# EAGLE library part A141-1455M1 (library saw-filters-narrowband)
A141-1455M1 Параметр Ед. изм. Мин. значение Тип. значение Макс. значение Центральная частота МГц 1453 1455 1457 Минимальное вносимое затухание дБ 2.8 3 3.5 Полоса среза по уровню -2 дБ МГц 26 27 29 Полоса среза по уровню -30 дБ МГц 72 74 76 Неравномерность АЧХ дБ - 1 1.2 Групповое время задержки нс - - - Гарантированное затухание дБ - 40 - Температурный диапазон °C -55 22 +85 Материал подложки - - Танталат лития 36 -
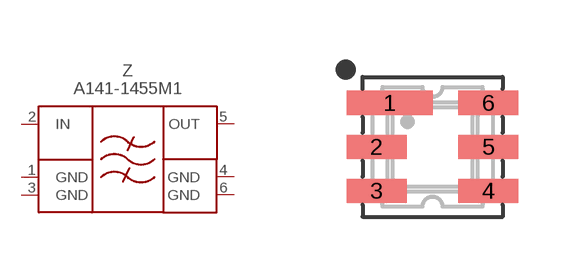
[diagram p20: symbol with the pads of DCC6; footprint DCC6]

Designator prefix Z

## A141-1455M1  [DCC6]
1  GND  pwr
2  IN  in
3  GND  pwr
4  GND  pwr
5  OUT  out
6  GND  pwr

## Footprint DCC6 (pad centres in mm)
smd 2.15 x 0.6: 1 -1.075,1.1
smd 1.5 x 0.6: 2 -1.4,0; 3 -1.4,-1.1; 4 1.4,-1.1; 5 1.4,0; 6 1.4,1.1